# Altium footprint library homecomputer-65021.PcbLib: 29 footprints (part 2 of 2)
Each footprint in its own frame and in the unit in brackets; x right, y up, seen from the top. Pads: shape width x height; smd on the part's side, far side on the other; paste and mask are expansions set on the pad; w line width, h text height; cw(c..) or ccw(c..) is an arc to the next point about the centre after c.
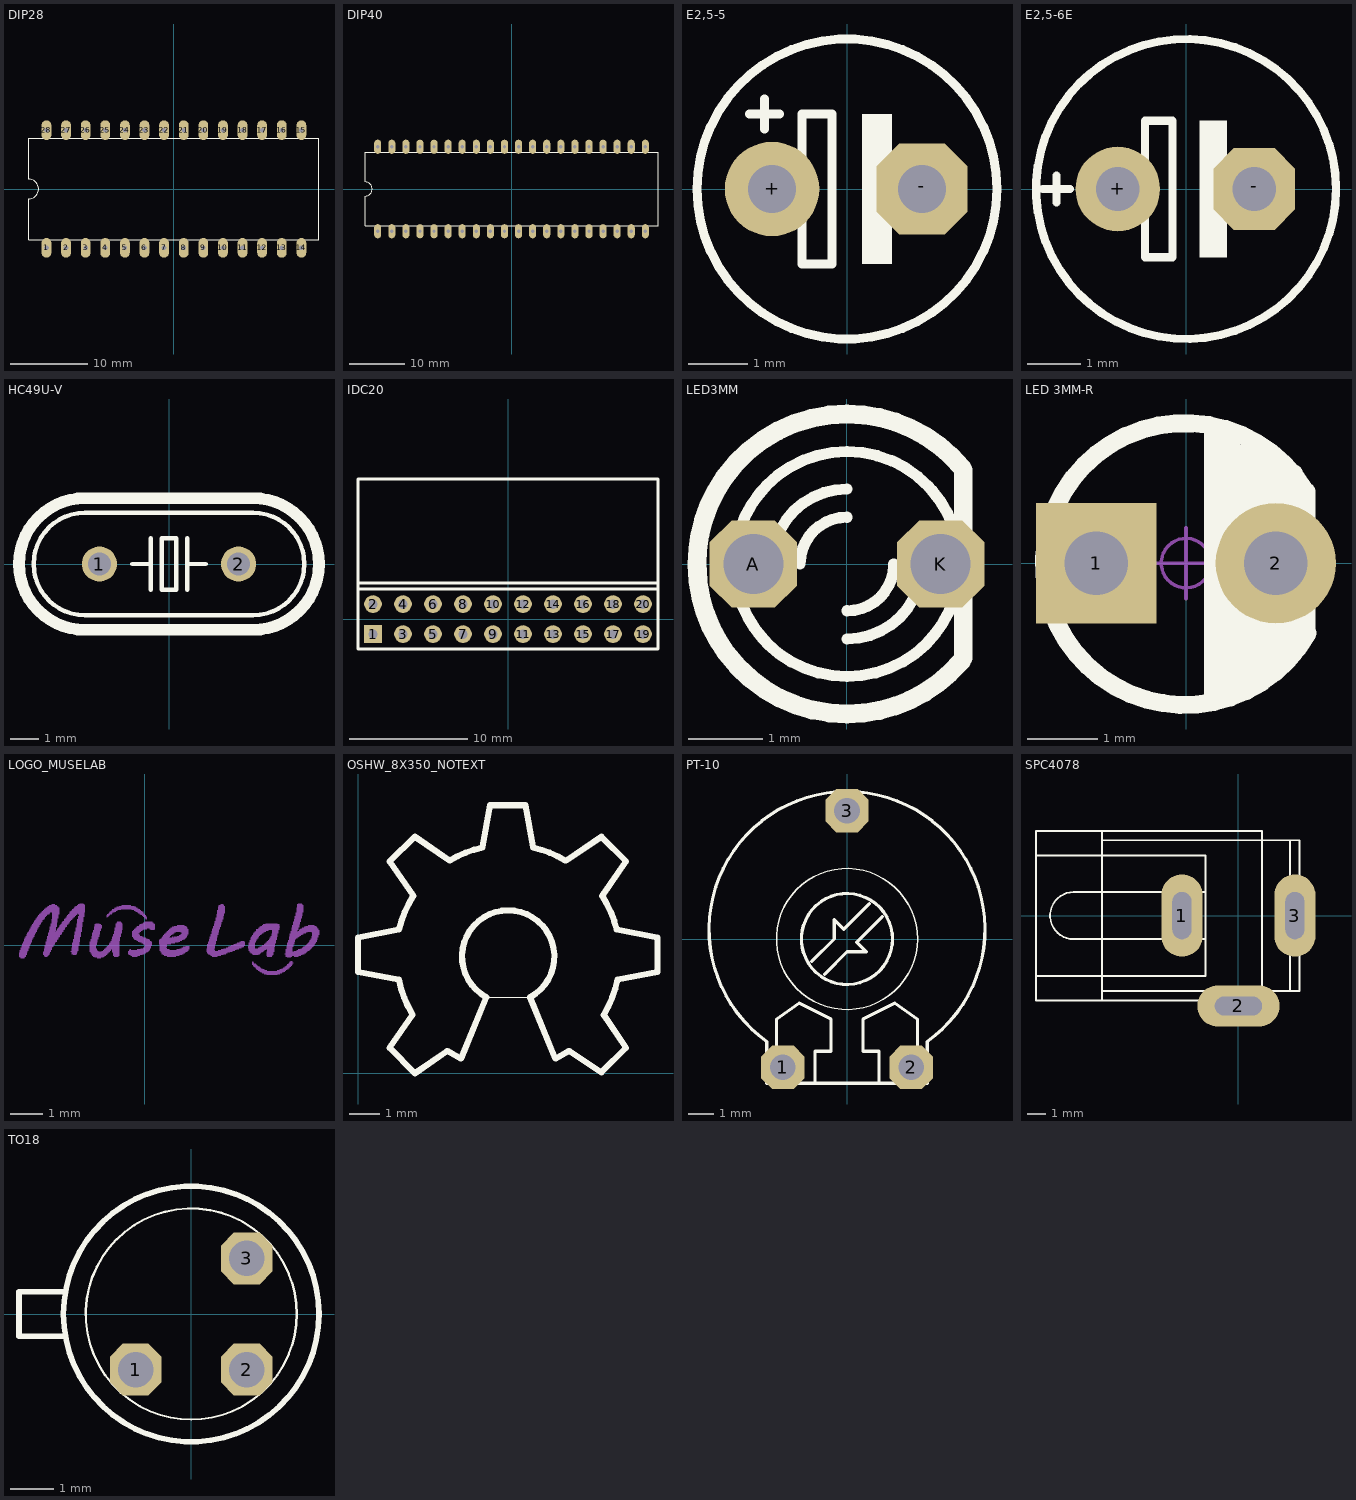
[diagram p1: the footprints below, top view; thin cyan lines are the x and y axes]

## DIP28 [mil] "DIP28"
pads (28):
  oval 50x100 hole 24: 1(-650,-300) 2(-550,-300) 3(-450,-300) 4(-350,-300) 5(-250,-300) 6(-150,-300) 7(-50,-300) 8(50,-300) 9(150,-300) 10(250,-300) 11(350,-300) 12(450,-300) 13(550,-300) 14(650,-300) 15(650,300) 16(550,300) 17(450,300) 18(350,300) 19(250,300) 20(150,300) 21(50,300) 22(-50,300) 23(-150,300) 24(-250,300) 25(-350,300) 26(-450,300) 27(-550,300) 28(-650,300)
Top Overlay:
  lines w5: -740,-260 -740,-50 ccw(c-740,0) -740,50 -740,260 740,260 740,-260 -740,-260

## DIP40 [mil] "DIP40"
pads (40):
  oval 50x100 hole 24: 1(-950,-300) 2(-850,-300) 3(-750,-300) 4(-650,-300) 5(-550,-300) 6(-450,-300) 7(-350,-300) 8(-250,-300) 9(-150,-300) 10(-50,-300) 11(50,-300) 12(150,-300) 13(250,-300) 14(350,-300) 15(450,-300) 16(550,-300) 17(650,-300) 18(750,-300) 19(850,-300) 20(950,-300) 21(950,300) 22(850,300) 23(750,300) 24(650,300) 25(550,300) 26(450,300) 27(350,300) 28(250,300) 29(150,300) 30(50,300) 31(-50,300) 32(-150,300) 33(-250,300) 34(-350,300) 35(-450,300) 36(-550,300) 37(-650,300) 38(-750,300) 39(-850,300) 40(-950,300)
Top Overlay:
  lines w5: -1040,-260 1040,-260 1040,260 -1040,260 -1040,50 cw(c-1040,0) -1040,-50 -1040,-260

## E2,5-5 [mil] "E2,5-5"
pads (2):
  round 63 hole 32: +(-50,0)
  oct 61x61 hole 32: -(50,0)
Top Overlay:
  circle w6: c0,0 r100
  region: 10,-50 10,50 30,50 30,-50
  lines w6: -65,0 -30,0 ; -65,50 -55,50 ; -55,40 -55,50 ; -55,60 -55,50 ; -45,50 -55,50 ; 25,0 65,0 ; -30,0 -30,-50 -10,-50 -10,50 -30,50 -30,0

## E2,5-6E [mil] "E2,5-6E"
pads (2):
  round 62 hole 32: +(-50,0)
  oct 60.03x60.03 hole 32: -(50,0)
Top Overlay:
  circle w6: c0,0 r110
  region: 10,-50 10,50 30,50 30,-50
  lines w6: -105,0 -85,0 ; -95,-10 -95,10 ; -65,0 -30,0 ; 25,0 65,0 ; -30,0 -30,-50 -10,-50 -10,50 -30,50 -30,0

## HC49U-V [mil] "HC49U-V"
pads (2):
  round 48 hole 32: 1(-95,0) 2(95,0)
Top Overlay:
  lines w6: -50,0 -25,0 ; -25,-35 -25,0 ; -25,35 -25,0 ; 25,-35 25,0 ; 25,35 25,0 ; 50,0 25,0 ; -115,-70 cw(c-115,0) -115,70 115,70 cw(c115,0) 115,-70 -115,-70 ; -10,-35 -10,35 10,35 10,-35 -10,-35
  lines w16: -115,-90 cw(c-115,0) -115,90 115,90 cw(c115,0) 115,-90 -115,-90

## IDC20 [mm]
pads (20):
  rect 1.5x1.5 hole 0.8: 1(-11.43,-1.27)
  round 1.5 hole 0.8: 2(-11.43,1.27) 3(-8.89,-1.27) 4(-8.89,1.27) 5(-6.35,-1.27) 6(-6.35,1.27) 7(-3.81,-1.27) 8(-3.81,1.27) 9(-1.27,-1.27) 10(-1.27,1.27) 11(1.27,-1.27) 12(1.27,1.27) 13(3.81,-1.27) 14(3.81,1.27) 15(6.35,-1.27) 16(6.35,1.27) 17(8.89,-1.27) 18(8.89,1.27) 19(11.43,-1.27) 20(11.43,1.27)
Top Overlay:
  lines w0.254: -12.7,3.07 12.7,3.07 ; -12.7,2.54 -12.7,11.87 12.7,11.87 12.7,2.54 ; -12.7,2.54 12.7,2.54 ; -12.7,2.54 -12.7,-2.54 12.7,-2.54 12.7,2.54

## LED3MM [mil] "LED3MM"
pads (2):
  oct 46.48x46.48 hole 32: A(-50,0) K(50,0)
Top Overlay:
  lines w6: -48,36 cw(c0,0) 0,60 cw(c-0.01,0) 48.82,34.87 ; -47.36,-36.83 ccw(c0.01,0) 0,-60 ccw(c-0.01,0) 47.36,-36.83 ; -46.09,38.41 ccw(c0,-0.01) -60,0 ccw(c0,-0.01) -44.85,-39.86 ; -40,0 cw(c0,0) 0,40 ; -25,0 cw(c0,0) 0,25 ; 0,-40 ccw(c0,0) 40,0 ; 0,-25 ccw(c0,0) 25,0 ; 45.56,39.05 cw(c0,0.01) 60,0 cw(c0,0.01) 46.09,-38.41
  lines w10: -70.59,37.65 cw(c0,0) 0,80 cw(c0.01,0) 61.46,51.22 ; -70.44,37.93 ccw(c0,0.01) -80,0 ccw(c0,0) -68.13,-41.93 ; -69.46,-39.69 ccw(c0,0) 0,-80 ccw(c0,0) 61.07,-51.68 ; 62,-50 62,50

## LED 3MM-R [mm] "红色3mm直插LED"
height 6.35
pads (2):
  rect 1.7x1.7 hole 0.9: 1(-1.27,0)
  round 1.7 hole 0.9: 2(1.27,0)
Top Overlay:
  lines w0.254: 0.381,-1.905 0.381,1.905 ; 0.635,-1.778 0.635,1.778 ; 1.016,-1.651 1.016,1.524 ; 1.524,1.27 1.524,-1.27 1.27,-1.524 1.27,1.397 1.143,1.524 1.016,1.524 ; 1.685,1.025 ccw(c-0.016,-0.012) 1.72,-0.987 ; 1.702,-0.965 1.702,1.016 ; 0.889,1.651 0.889,-1.778 0.889,1.651 ; 0.889,1.651 1.016,1.524
Mechanical 15:
  circle w0.05: c0,0 r0.35
  lines w0.05: -0.5,0 0.5,0 ; 0,-0.5 0,0.5
3D body "LED 3mm-R.STEP": height 3.01, standoff -3.45, extent -1.623,-0.838 1.618,0.838
3D body "LED 3mm-玻璃罩.ST": height 5.55, standoff 0.05, extent -1.95,-1.95 1.638,1.95

## LOGO_MUSELAB [mil]
Top Solder:
  drawing of 685 lines, arcs and shapes, not listed

## OSHW_8X350_NOTEXT [mil] "OSHW_8X350_NOTEXT"
Top Overlay:
  drawing of 3274 lines, arcs and shapes, not listed
Mechanical 67:
  text "/home/buglabs/Downloads/oshw_temp.bmp" at 0,-1.63 h0.55

## PT-10 [mil] "PT-10"
pads (3):
  oct 67.78x67.78 hole 40: 1(-100,-200) 2(100,-200) 3(0,200)
Top Overlay:
  circle w2: c0,0 r110
  circle w5: c0,0 r71
  lines w5: -110,-225 -110,-125 -75,-100 -25,-125 -25,-175 -50,-175 -50,-225 ; -55,-35 -20,0 -20,30 -5,15 35,55 ; -35,-55 0,-20 30,-20 15,-5 55,35 ; 50,-225 50,-175 25,-175 25,-125 75,-100 110,-125 110,-225 ; -125,-225 125,-225 125,-160 ccw(c0,15) -125,-160 -125,-225

## SPC4078 [mil] "SPC4078"
pads (3):
  oval 86x172 hole 39.37 slot 98.43 at 90 deg: 1(-118.11,0) 3(118.11,0)
  oval 172x86 hole 39.37 slot 98.43 at 0 deg: 2(0,-188.98)
Top Overlay:
  lines w3.94: -285.43,-177.17 -285.43,157.48 ; -285.43,-157.48 49.21,-157.48 ; -285.43,177.17 -285.43,157.48 ; -100.79,-177.17 -423.23,-177.17 ; 49.21,-107.48 49.21,157.48 ; 108.27,-92.52 108.27,-157.48 ; 108.27,92.52 108.27,157.48 ; 127.95,-92.52 127.95,-157.48 ; 127.95,92.52 127.95,157.48 ; -423.23,-177.17 -423.23,-125.98 ; -423.23,-177.17 49.21,-177.17 49.21,-157.48 ; -423.23,-125.98 -68.9,-125.98 -68.9,-49.21 ; -423.23,-125.98 -423.23,125.98 ; -423.23,125.98 -68.9,125.98 -68.9,49.21 ; -423.23,125.98 -423.23,177.17 49.21,177.17 49.21,157.48 ; -285.43,157.48 49.21,157.48 ; -68.9,-49.21 -68.9,49.21 ; -68.9,-49.21 -344.49,-49.21 cw(c-344.49,0) -344.49,49.21 -68.9,49.21 ; 49.21,-157.48 108.27,-157.48 ; 49.21,-157.48 49.21,157.48 ; 49.21,157.48 108.27,157.48 ; 108.27,-157.48 127.95,-157.48 ; 108.27,-157.48 108.27,157.48 ; 108.27,-157.48 127.95,-157.48 ; 108.27,157.48 127.95,157.48 ; 127.95,-157.48 127.95,157.48

## TO18 [mil] "TO18"
pads (3):
  oct 46.48x46.48 hole 32: 1(-50,-50) 2(50,-50) 3(50,50)
Top Overlay:
  circle w5: c0,0 r115
  lines w2: -87.68,-36.57 cw(c0,0) 36.57,87.68 cw(c0,0) 87.68,36.57 cw(c0,0) 87.68,-36.57 cw(c0,0) 36.57,-87.68 cw(c0,0) -36.57,-87.68 cw(c0,0) -87.68,-36.57
  lines w5: -113.25,-20 -155,-20 -155,20 -113.25,20